# Altium footprint library MP2393GTL-Z.PcbLib: 1 footprints
Each footprint in its own frame and in the unit in brackets; x right, y up, seen from the top. Pads: shape width x height; smd on the part's side, far side on the other; paste and mask are expansions set on the pad; w line width, h text height; cw(c..) or ccw(c..) is an arc to the next point about the centre after c.
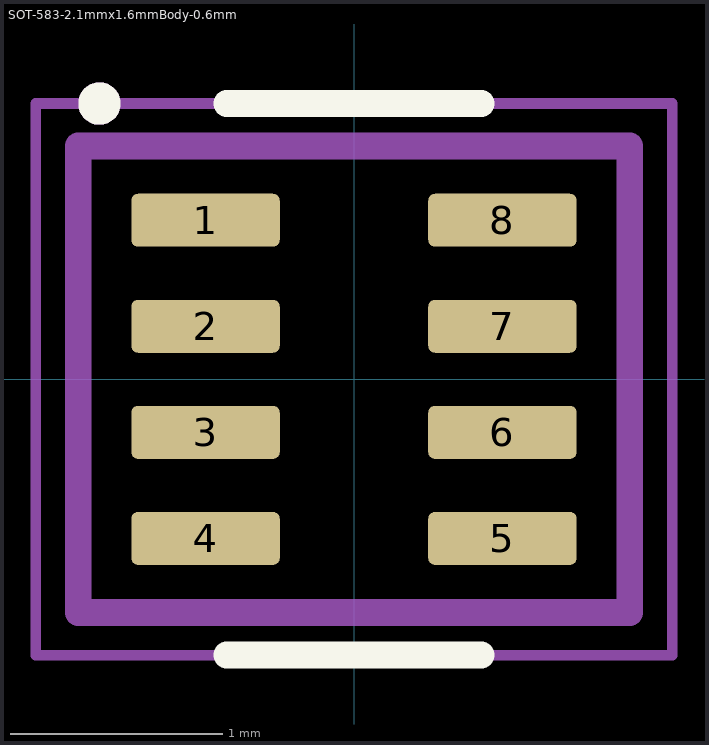
[diagram p0: the footprint, top view; thin cyan lines are the x and y axes]

## SOT-583-2.1mmx1.6mmBody-0.6mm [mm] "SOT-583, 8 pins, 2.1 x 1.6mm body, nominal pads, 0.6mm high"
height 0.6
pads (8):
  rrect25% 0.7x0.25 smd: 1(-0.7,0.75) 2(-0.7,0.25) 3(-0.7,-0.25) 4(-0.7,-0.75) 5(0.7,-0.75) 6(0.7,-0.25) 7(0.7,0.25) 8(0.7,0.75)
Top Overlay:
  circle w0.1: c-1.2,1.3 r0.05
  lines w0.127: -0.6,-1.3 0.6,-1.3 ; -0.6,1.3 0.6,1.3
Mechanical 13:
  circle w0.1: c-1.2,1.3 r0.05
  lines w0.127: -1.3,-1.1 1.3,-1.1 1.3,1.1 -1.3,1.1 -1.3,-1.1
Mechanical 15:
  lines w0.05: -1.5,-1.3 1.5,-1.3 1.5,1.3 -1.5,1.3 -1.5,-1.3
3D body "SOT583_MP2183_MNP.step": height 0.56, standoff 0, extent -0.851,-1.105 0.851,1.105